# Altium integrated library National Semiconductor Audio.IntLib: 683 symbols (part 3 of 18)
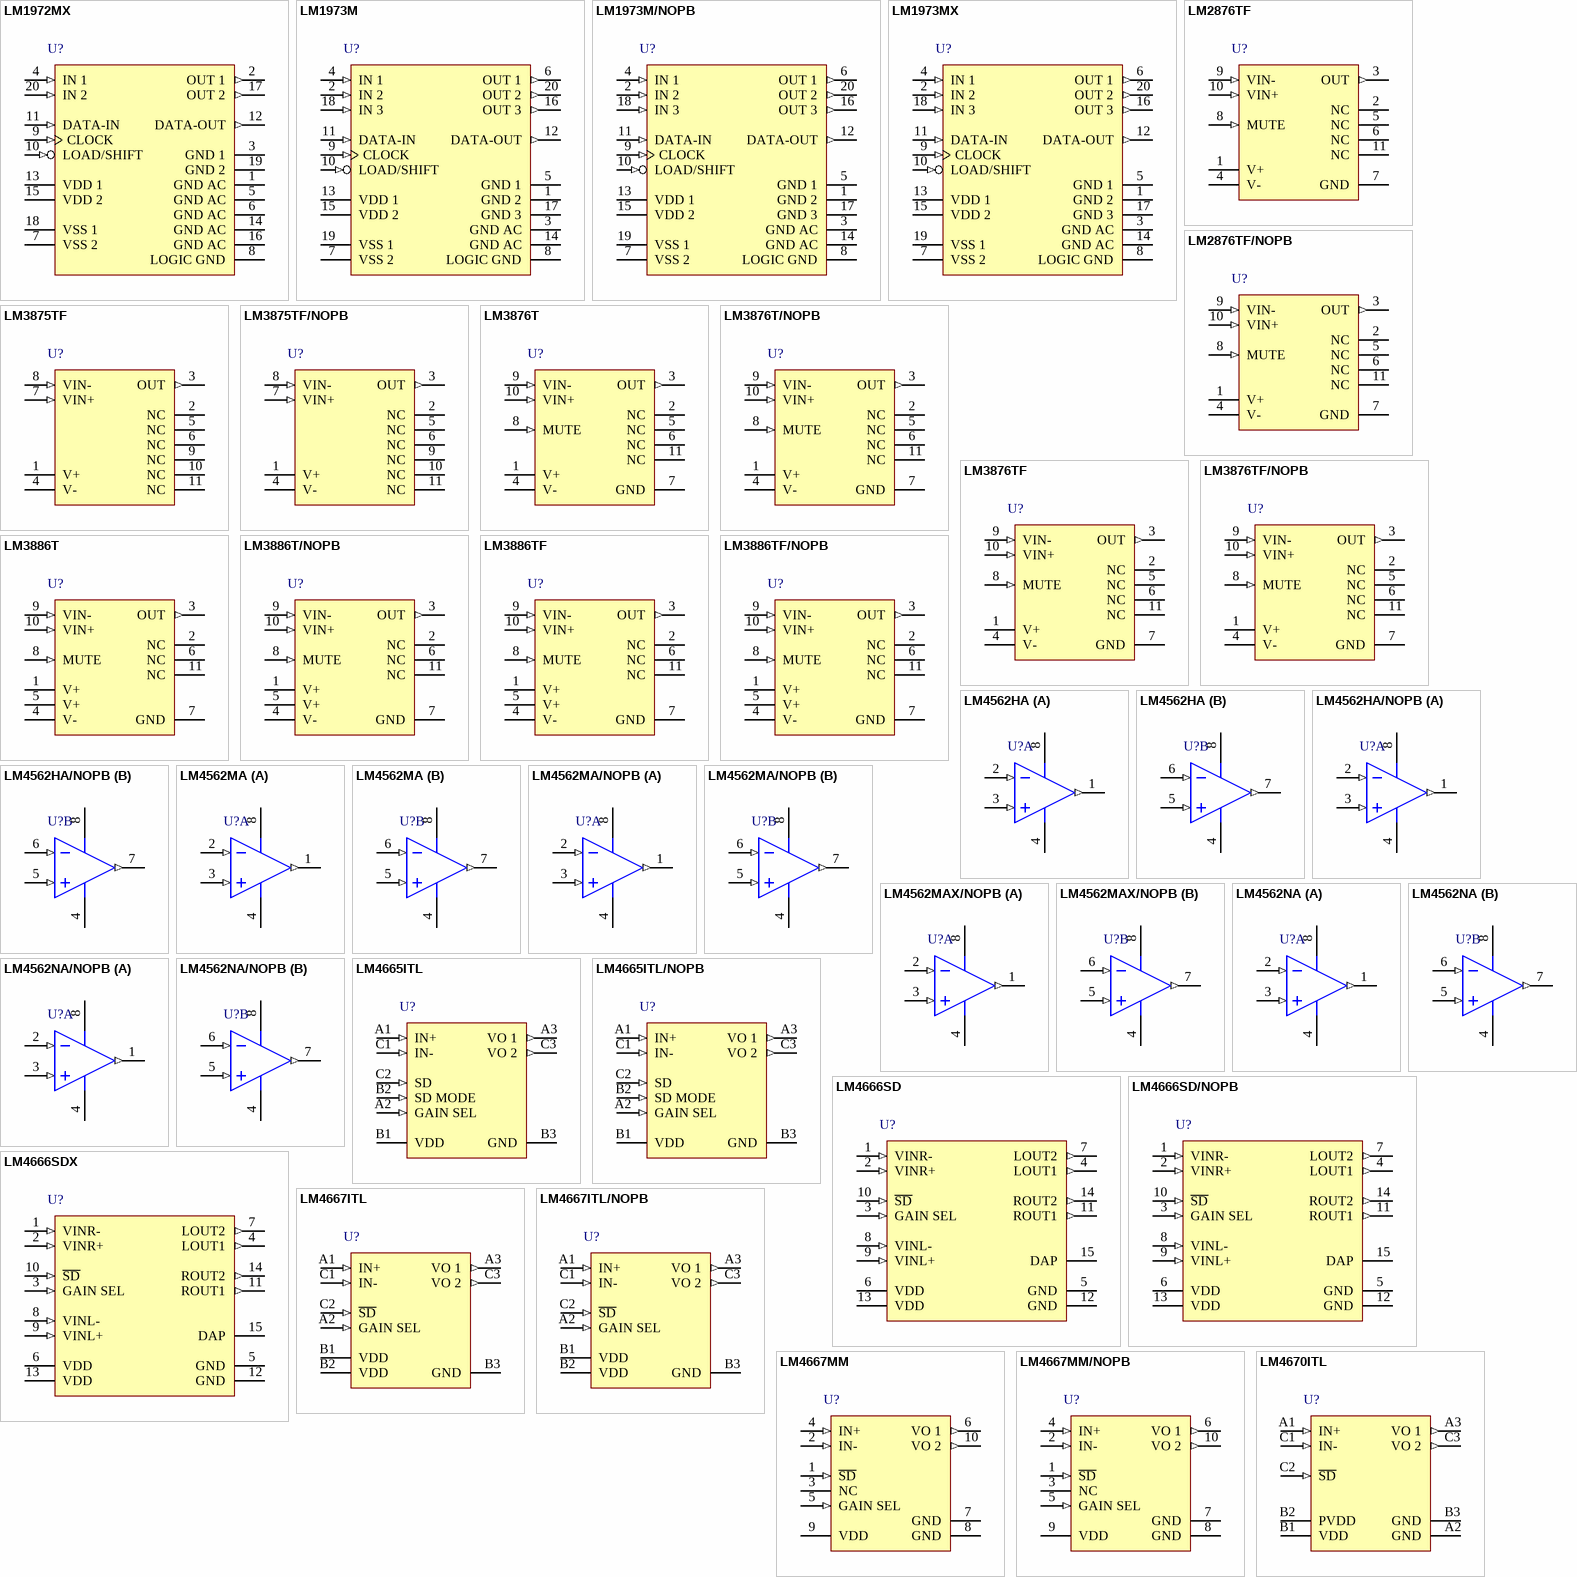
[diagram p29: symbols LM1972MX to LM4670ITL]

## LM4667ITL/NOPB
designator U?
Filterless High Efficiency 1.3W Switching Audio Amplifier, 9-pin Micro SMD, Pb-Free; PartNumber: LM4667ITL/NOPB; Manufacturer: National Semiconductor; PackageTopMarking: XVG*I B4; PowerWise: N; CompType: Audio IC; High-Reliability: Y; DatasheetVersion: Sep-2004; PackageVersion: revC, Jan-2004; PackageReference: TLA09AAA; PackageDescription: Thin Micro SMD, 9 Bump (Large), 0.5mm Pitch; RoHS: Y; PinCount: 9; Code_JEDEC: MO-211-DD; ComponentLink1Description: Manufacturer URL; ComponentLink1URL: http://www.national.com/; ComponentLink2Description: LM4667 Datasheet; ComponentLink2URL: http://www.national.com/ds/LM/LM4667.pdf; ComponentLink3Description: LM4667 Web Page; ComponentLink3URL: http://www.national.com/pf/LM/LM4667.html; ComponentLink4Description: TLA09AAA Package Page; ComponentLink4URL: http://www.national.com/packaging/folders/tla09aaa.html
footprint TLA09AAA (Micro SMD, 9-Leads, Body 1.52x1.52mm, Pitch 0.5mm, NSC Recommended)
pins: A1 IN+ (in), A2 GAIN SEL (in), A3 VO 1 (out), B1 VDD (power), B2 VDD (power), B3 GND (power), C1 IN- (in), C2 ~{SD} (in), C3 VO 2 (out)

## LM4667MM
designator U?
Filterless High Efficiency 1.3W Switching Audio Amplifier, 10-pin MSOP; PartNumber: LM4667MM; Manufacturer: National Semiconductor; PackageTopMarking: ZXTT*GA6; PowerWise: N; CompType: Audio IC; High-Reliability: Y; DatasheetVersion: Sep-2004; PackageVersion: revB, Jul-2003; PackageReference: MUB10A; PackageDescription: Mini-SO, Molded, .118 x .118 x .034in Body, 10 Lead, .0197in Pitch; RoHS: N; PinCount: 10; Code_JEDEC: MO-187-BA; ComponentLink1Description: Manufacturer URL; ComponentLink1URL: http://www.national.com/; ComponentLink2Description: LM4667 Datasheet; ComponentLink2URL: http://www.national.com/ds/LM/LM4667.pdf; ComponentLink3Description: LM4667 Web Page; ComponentLink3URL: http://www.national.com/pf/LM/LM4667.html; ComponentLink4Description: MUB10A Package Page; ComponentLink4URL: http://www.national.com/packaging/folders/mub10a.html
footprint MUB10A_N (TSSOP, 10-Leads, Body 3x3mm, Pitch 0.5mm, IPC Medium Density)
footprint MUB10A_L (TSSOP, 10-Leads, Body 3x3mm, Pitch 0.5mm, IPC High Density)
footprint MUB10A_M (TSSOP, 10-Leads, Body 3x3mm, Pitch 0.5mm, IPC Low Density)
pins: 1 ~{SD} (in), 2 IN- (in), 3 NC, 4 IN+ (in), 5 GAIN SEL (in), 6 VO 1 (out), 7 GND (power), 8 GND (power), 9 VDD (power), 10 VO 2 (out)

## LM4667MM/NOPB
designator U?
Filterless High Efficiency 1.3W Switching Audio Amplifier, 10-pin Mini SOIC, Pb-Free; PartNumber: LM4667MM/NOPB; Manufacturer: National Semiconductor; PackageTopMarking: ZXTT*GA6; PowerWise: N; CompType: Audio IC; High-Reliability: Y; DatasheetVersion: Sep-2004; PackageVersion: revB, Jul-2003; PackageReference: MUB10A; PackageDescription: Mini-SO, Molded, .118 x .118 x .034in Body, 10 Lead, .0197in Pitch; RoHS: Y; PinCount: 10; Code_JEDEC: MO-187-BA; ComponentLink1Description: Manufacturer URL; ComponentLink1URL: http://www.national.com/; ComponentLink2Description: LM4667 Datasheet; ComponentLink2URL: http://www.national.com/ds/LM/LM4667.pdf; ComponentLink3Description: LM4667 Web Page; ComponentLink3URL: http://www.national.com/pf/LM/LM4667.html; ComponentLink4Description: MUB10A Package Page; ComponentLink4URL: http://www.national.com/packaging/folders/mub10a.html
footprint MUB10A_N (TSSOP, 10-Leads, Body 3x3mm, Pitch 0.5mm, IPC Medium Density)
footprint MUB10A_L (TSSOP, 10-Leads, Body 3x3mm, Pitch 0.5mm, IPC High Density)
footprint MUB10A_M (TSSOP, 10-Leads, Body 3x3mm, Pitch 0.5mm, IPC Low Density)
pins: 1 ~{SD} (in), 2 IN- (in), 3 NC, 4 IN+ (in), 5 GAIN SEL (in), 6 VO 1 (out), 7 GND (power), 8 GND (power), 9 VDD (power), 10 VO 2 (out)

## LM4670ITL
designator U?
Filterless High Efficiency 3W Switching Audio Amplifier, 9-pin Micro SMD; PartNumber: LM4670ITL; Manufacturer: National Semiconductor; PackageTopMarking: XVG*I E6; PowerWise: N; CompType: Audio IC; High-Reliability: Y; DatasheetVersion: Jul-2006; PackageVersion: revC, Jan-2004; PackageReference: TLA09ZZA; PackageDescription: Thin Micro SMD, 9 Bump (Large), 0.5mm Pitch; RoHS: Y; PinCount: 9; Code_JEDEC: MO-211-DD; ComponentLink1Description: Manufacturer URL; ComponentLink1URL: http://www.national.com/; ComponentLink2Description: LM4670 Datasheet; ComponentLink2URL: http://www.national.com/ds/LM/LM4670.pdf; ComponentLink3Description: LM4670 Web Page; ComponentLink3URL: http://www.national.com/pf/LM/LM4670.html; ComponentLink4Description: TLA09ZZA Package Page; ComponentLink4URL: http://www.national.com/packaging/folders/tla09zza.html
footprint TLA09ZZA (Micro SMD, 9-Leads, Body 1.47x1.47mm, Pitch 0.5mm, NSC Recommended)
pins: A1 IN+ (in), A2 GND (power), A3 VO 1 (out), B1 VDD (power), B2 PVDD (power), B3 GND (power), C1 IN- (in), C2 ~{SD} (in), C3 VO 2 (out)

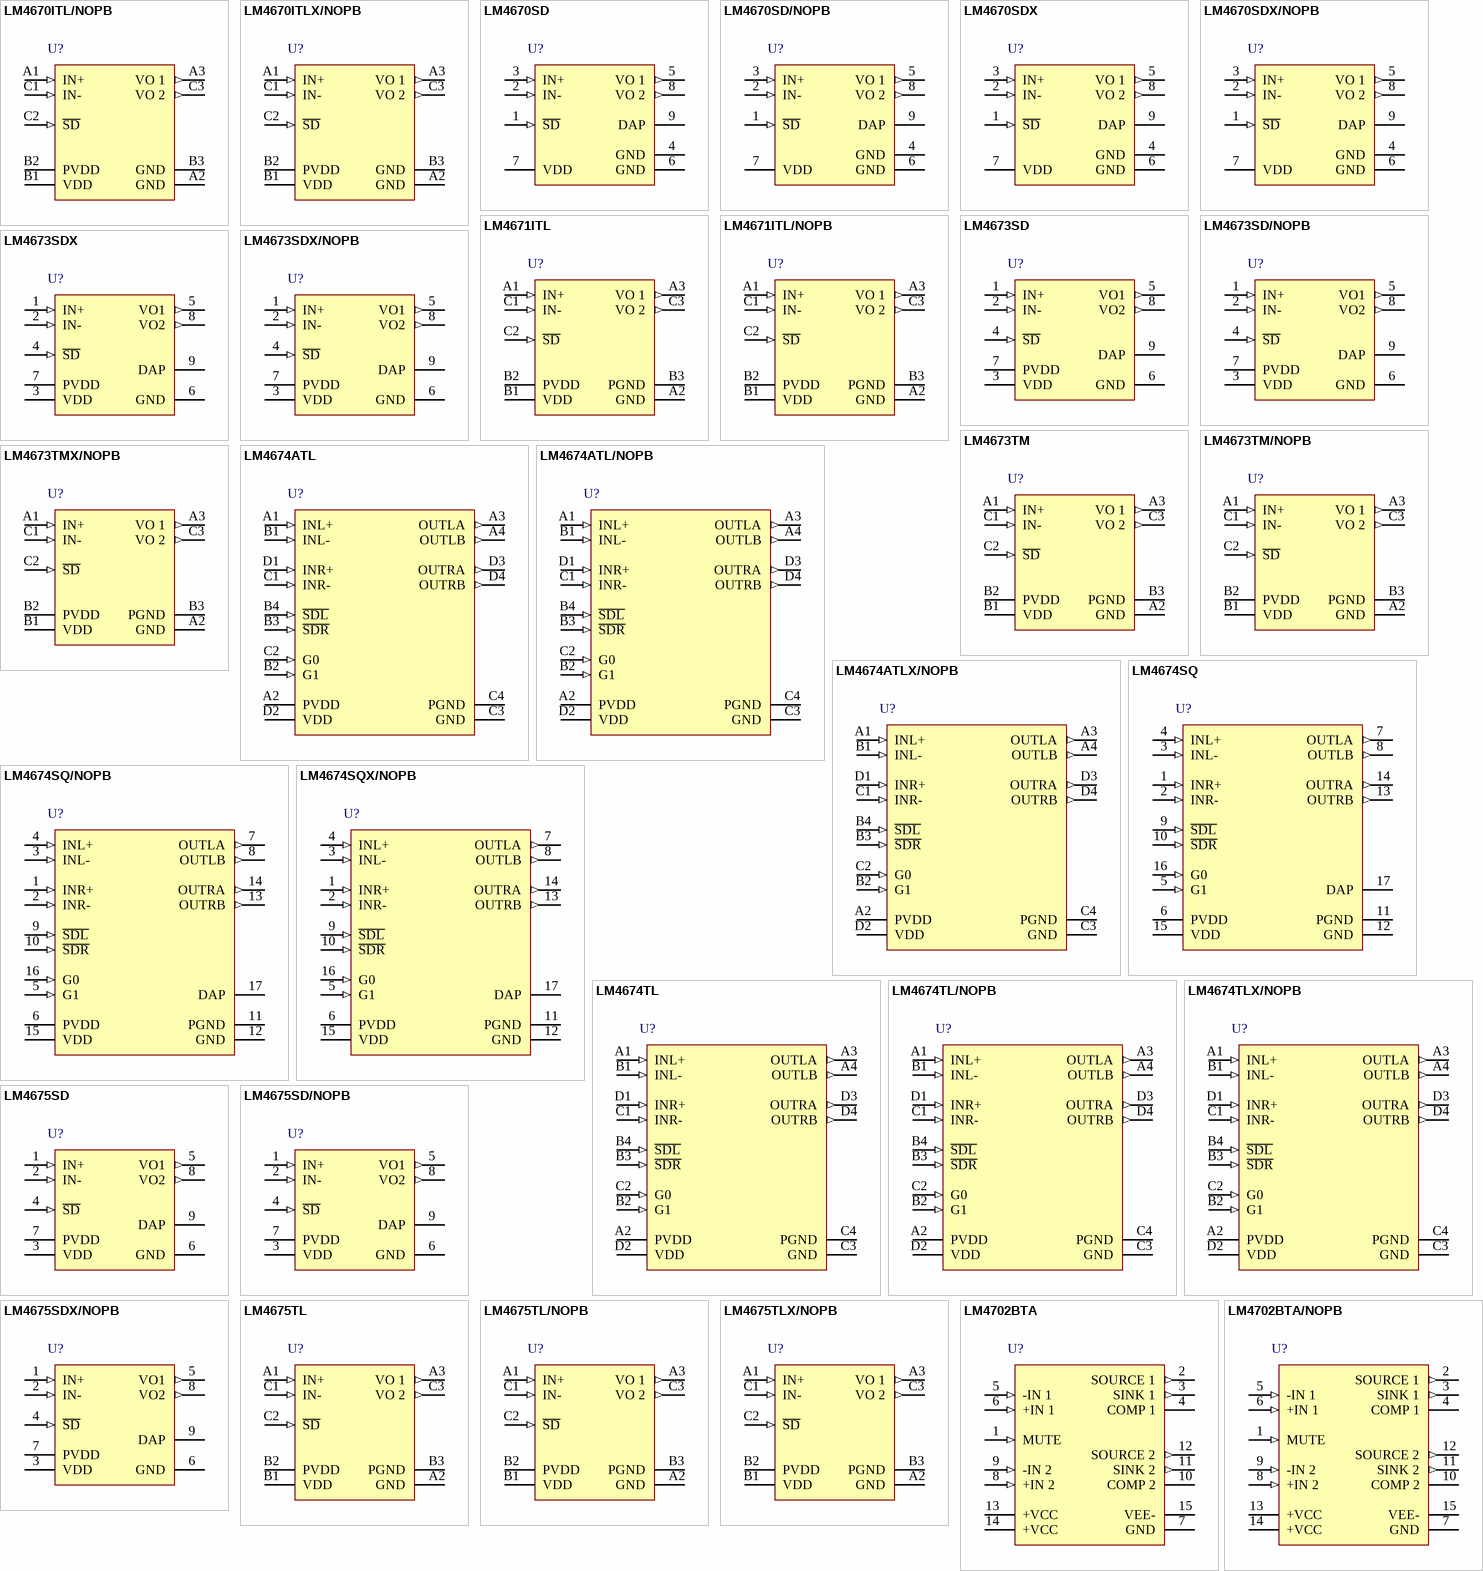
[diagram p3: symbols LM4670ITL/NOPB to LM4702BTA/NOPB]

## LM4670ITL/NOPB
designator U?
Filterless High Efficiency 3W Switching Audio Amplifier, 9-pin Micro SMD, Pb-Free; PartNumber: LM4670ITL/NOPB; Manufacturer: National Semiconductor; PackageTopMarking: XVG*I E6; PowerWise: N; CompType: Audio IC; High-Reliability: Y; DatasheetVersion: Jul-2006; PackageVersion: revC, Jan-2004; PackageReference: TLA09ZZA; PackageDescription: Thin Micro SMD, 9 Bump (Large), 0.5mm Pitch; RoHS: Y; PinCount: 9; Code_JEDEC: MO-211-DD; ComponentLink1Description: Manufacturer URL; ComponentLink1URL: http://www.national.com/; ComponentLink2Description: LM4670 Datasheet; ComponentLink2URL: http://www.national.com/ds/LM/LM4670.pdf; ComponentLink3Description: LM4670 Web Page; ComponentLink3URL: http://www.national.com/pf/LM/LM4670.html; ComponentLink4Description: TLA09ZZA Package Page; ComponentLink4URL: http://www.national.com/packaging/folders/tla09zza.html
footprint TLA09ZZA (Micro SMD, 9-Leads, Body 1.47x1.47mm, Pitch 0.5mm, NSC Recommended)
pins: A1 IN+ (in), A2 GND (power), A3 VO 1 (out), B1 VDD (power), B2 PVDD (power), B3 GND (power), C1 IN- (in), C2 ~{SD} (in), C3 VO 2 (out)

## LM4670ITLX/NOPB
designator U?
Filterless High Efficiency 3W Switching Audio Amplifier, 9-pin Micro SMD, Pb-Free; PartNumber: LM4670ITLX/NOPB; Manufacturer: National Semiconductor; PackageTopMarking: XVG*I E6; PowerWise: N; CompType: Audio IC; High-Reliability: Y; DatasheetVersion: Jul-2006; PackageVersion: revC, Jan-2004; PackageReference: TLA09ZZA; PackageDescription: Thin Micro SMD, 9 Bump (Large), 0.5mm Pitch; RoHS: Y; PinCount: 9; Code_JEDEC: MO-211-DD; ComponentLink1Description: Manufacturer URL; ComponentLink1URL: http://www.national.com/; ComponentLink2Description: LM4670 Datasheet; ComponentLink2URL: http://www.national.com/ds/LM/LM4670.pdf; ComponentLink3Description: LM4670 Web Page; ComponentLink3URL: http://www.national.com/pf/LM/LM4670.html; ComponentLink4Description: TLA09ZZA Package Page; ComponentLink4URL: http://www.national.com/packaging/folders/tla09zza.html
footprint TLA09ZZA (Micro SMD, 9-Leads, Body 1.47x1.47mm, Pitch 0.5mm, NSC Recommended)
pins: A1 IN+ (in), A2 GND (power), A3 VO 1 (out), B1 VDD (power), B2 PVDD (power), B3 GND (power), C1 IN- (in), C2 ~{SD} (in), C3 VO 2 (out)

## LM4670SD
designator U?
Filterless High Efficiency 3W Switching Audio Amplifier, 9-pin LLP; PartNumber: LM4670SD; Manufacturer: National Semiconductor; PackageTopMarking: ZXYTT*L4670; PowerWise: N; CompType: Audio IC; High-Reliability: Y; DatasheetVersion: Jul-2006; PackageVersion: revA, Aug-2003; PackageReference: SDA08A; PackageDescription: LLP, Plastic, Dual, 3 x 3 x 0.8mm Body, 8 Lead, 0.5mm Pitch, No Pullback; RoHS: N; PinCount: 8; ComponentLink1Description: Manufacturer URL; ComponentLink1URL: http://www.national.com/; ComponentLink2Description: LM4670 Datasheet; ComponentLink2URL: http://www.national.com/ds/LM/LM4670.pdf; ComponentLink3Description: LM4670 Web Page; ComponentLink3URL: http://www.national.com/pf/LM/LM4670.html; ComponentLink4Description: SDA08A Package Page; ComponentLink4URL: http://www.national.com/packaging/folders/sda08a.html
footprint SDA08A (SON, 8-Leads, Body 3x3mm, Pitch 0.5mm, NSC Recommended)
pins: 1 ~{SD} (in), 2 IN- (in), 3 IN+ (in), 4 GND (power), 5 VO 1 (out), 6 GND (power), 7 VDD (power), 8 VO 2 (out), 9 DAP (power)

## LM4670SD/NOPB
designator U?
Filterless High Efficiency 3W Switching Audio Amplifier, 8-pin LLP, Pb-Free; PartNumber: LM4670SD/NOPB; Manufacturer: National Semiconductor; PackageTopMarking: ZXYTT*L4670; PowerWise: N; CompType: Audio IC; High-Reliability: Y; DatasheetVersion: Jul-2006; PackageVersion: revA, Aug-2003; PackageReference: SDA08A; PackageDescription: LLP, Plastic, Dual, 3 x 3 x 0.8mm Body, 8 Lead, 0.5mm Pitch, No Pullback; RoHS: Y; PinCount: 8; ComponentLink1Description: Manufacturer URL; ComponentLink1URL: http://www.national.com/; ComponentLink2Description: LM4670 Datasheet; ComponentLink2URL: http://www.national.com/ds/LM/LM4670.pdf; ComponentLink3Description: LM4670 Web Page; ComponentLink3URL: http://www.national.com/pf/LM/LM4670.html; ComponentLink4Description: SDA08A Package Page; ComponentLink4URL: http://www.national.com/packaging/folders/sda08a.html
footprint SDA08A (SON, 8-Leads, Body 3x3mm, Pitch 0.5mm, NSC Recommended)
pins: 1 ~{SD} (in), 2 IN- (in), 3 IN+ (in), 4 GND (power), 5 VO 1 (out), 6 GND (power), 7 VDD (power), 8 VO 2 (out), 9 DAP (power)

## LM4670SDX
designator U?
Filterless High Efficiency 3W Switching Audio Amplifier, 8-pin LLP; PartNumber: LM4670SDX; Manufacturer: National Semiconductor; PackageTopMarking: ZXYTT*L4670; PowerWise: N; CompType: Audio IC; High-Reliability: Y; DatasheetVersion: Jul-2006; PackageVersion: revA, Aug-2003; PackageReference: SDA08A; PackageDescription: LLP, Plastic, Dual, 3 x 3 x 0.8mm Body, 8 Lead, 0.5mm Pitch, No Pullback; RoHS: N; PinCount: 8; ComponentLink1Description: Manufacturer URL; ComponentLink1URL: http://www.national.com/; ComponentLink2Description: LM4670 Datasheet; ComponentLink2URL: http://www.national.com/ds/LM/LM4670.pdf; ComponentLink3Description: LM4670 Web Page; ComponentLink3URL: http://www.national.com/pf/LM/LM4670.html; ComponentLink4Description: SDA08A Package Page; ComponentLink4URL: http://www.national.com/packaging/folders/sda08a.html
footprint SDA08A (SON, 8-Leads, Body 3x3mm, Pitch 0.5mm, NSC Recommended)
pins: 1 ~{SD} (in), 2 IN- (in), 3 IN+ (in), 4 GND (power), 5 VO 1 (out), 6 GND (power), 7 VDD (power), 8 VO 2 (out), 9 DAP (power)

## LM4670SDX/NOPB
designator U?
Filterless High Efficiency 3W Switching Audio Amplifier, 8-pin LLP, Pb-Free; PartNumber: LM4670SDX/NOPB; Manufacturer: National Semiconductor; PackageTopMarking: ZXYTT*L4670; PowerWise: N; CompType: Audio IC; High-Reliability: Y; DatasheetVersion: Jul-2006; PackageVersion: revA, Aug-2003; PackageReference: SDA08A; PackageDescription: LLP, Plastic, Dual, 3 x 3 x 0.8mm Body, 8 Lead, 0.5mm Pitch, No Pullback; RoHS: Y; PinCount: 8; ComponentLink1Description: Manufacturer URL; ComponentLink1URL: http://www.national.com/; ComponentLink2Description: LM4670 Datasheet; ComponentLink2URL: http://www.national.com/ds/LM/LM4670.pdf; ComponentLink3Description: LM4670 Web Page; ComponentLink3URL: http://www.national.com/pf/LM/LM4670.html; ComponentLink4Description: SDA08A Package Page; ComponentLink4URL: http://www.national.com/packaging/folders/sda08a.html
footprint SDA08A (SON, 8-Leads, Body 3x3mm, Pitch 0.5mm, NSC Recommended)
pins: 1 ~{SD} (in), 2 IN- (in), 3 IN+ (in), 4 GND (power), 5 VO 1 (out), 6 GND (power), 7 VDD (power), 8 VO 2 (out), 9 DAP (power)

## LM4671ITL
designator U?
Filterless High Efficiency 2.5W Switching Audio Amplifier, 9-pin Micro SMD; PartNumber: LM4671ITL; Manufacturer: National Semiconductor; PackageTopMarking: XVG*I E7; PowerWise: N; CompType: Audio IC; High-Reliability: Y; DatasheetVersion: Mar-2008; PackageVersion: revC, Jan-2004; PackageReference: TLA09AAA; PackageDescription: Thin Micro SMD, 9 Bump (Large), 0.5mm Pitch; RoHS: Y; PinCount: 9; Code_JEDEC: MO-211-DD; ComponentLink1Description: Manufacturer URL; ComponentLink1URL: http://www.national.com/; ComponentLink2Description: LM4671 Datasheet; ComponentLink2URL: http://www.national.com/ds/LM/LM4671.pdf; ComponentLink3Description: LM4671 Web Page; ComponentLink3URL: http://www.national.com/pf/LM/LM4671.html; ComponentLink4Description: TLA09AAA Package Page; ComponentLink4URL: http://www.national.com/packaging/folders/tla09aaa.html
footprint TLA09AAA (Micro SMD, 9-Leads, Body 1.52x1.52mm, Pitch 0.5mm, NSC Recommended)
pins: A1 IN+ (in), A2 GND (power), A3 VO 1 (out), B1 VDD (power), B2 PVDD (power), B3 PGND (power), C1 IN- (in), C2 ~{SD} (in), C3 VO 2 (out)

## LM4671ITL/NOPB
designator U?
Filterless High Efficiency 2.5W Switching Audio Amplifier, 9-pin Micro SMD, Pb-Free; PartNumber: LM4671ITL/NOPB; Manufacturer: National Semiconductor; PackageTopMarking: XVG*I E7; PowerWise: N; CompType: Audio IC; High-Reliability: Y; DatasheetVersion: Mar-2008; PackageVersion: revC, Jan-2004; PackageReference: TLA09AAA; PackageDescription: Thin Micro SMD, 9 Bump (Large), 0.5mm Pitch; RoHS: Y; PinCount: 9; Code_JEDEC: MO-211-DD; ComponentLink1Description: Manufacturer URL; ComponentLink1URL: http://www.national.com/; ComponentLink2Description: LM4671 Datasheet; ComponentLink2URL: http://www.national.com/ds/LM/LM4671.pdf; ComponentLink3Description: LM4671 Web Page; ComponentLink3URL: http://www.national.com/pf/LM/LM4671.html; ComponentLink4Description: TLA09AAA Package Page; ComponentLink4URL: http://www.national.com/packaging/folders/tla09aaa.html
footprint TLA09AAA (Micro SMD, 9-Leads, Body 1.52x1.52mm, Pitch 0.5mm, NSC Recommended)
pins: A1 IN+ (in), A2 GND (power), A3 VO 1 (out), B1 VDD (power), B2 PVDD (power), B3 PGND (power), C1 IN- (in), C2 ~{SD} (in), C3 VO 2 (out)

## LM4673SD
designator U?
Filterless, 2.65W, Mono, Class D Audio Power Amplifier, 9-pin LLP; PartNumber: LM4673SD; Manufacturer: National Semiconductor; PackageTopMarking: ZXYTT*L4673; PowerWise: Y; CompType: Audio IC; DatasheetVersion: Nov-2007; PackageVersion: revA, Aug-2003; PackageReference: SDA08A; PackageDescription: LLP, Plastic, Dual, 3 x 3 x 0.8mm Body, 8 Lead, 0.5mm Pitch, No Pullback; RoHS: N; PinCount: 8; High-Reliability: Y; ComponentLink1Description: Manufacturer URL; ComponentLink1URL: http://www.national.com/; ComponentLink2Description: LM4673 Datasheet; ComponentLink2URL: http://www.national.com/ds/LM/LM4673.pdf; ComponentLink3Description: LM4673 Web Page; ComponentLink3URL: http://www.national.com/pf/LM/LM4673.html; ComponentLink4Description: SDA08A Package Page; ComponentLink4URL: http://www.national.com/packaging/folders/sda08a.html
footprint SDA08A (SON, 8-Leads, Body 3x3mm, Pitch 0.5mm, NSC Recommended)
pins: 1 IN+ (in), 2 IN- (in), 3 VDD (power), 4 ~{SD} (in), 5 VO1 (out), 6 GND (power), 7 PVDD (power), 8 VO2 (out), 9 DAP (power)

## LM4673SD/NOPB
designator U?
Filterless, 2.65W, Mono, Class D Audio Power Amplifier, 8-pin LLP, Pb-Free; PartNumber: LM4673SD/NOPB; Manufacturer: National Semiconductor; PackageTopMarking: ZXYTT*L4673; PowerWise: Y; CompType: Audio IC; DatasheetVersion: Nov-2007; PackageVersion: revA, Aug-2003; PackageReference: SDA08A; PackageDescription: LLP, Plastic, Dual, 3 x 3 x 0.8mm Body, 8 Lead, 0.5mm Pitch, No Pullback; RoHS: Y; PinCount: 8; High-Reliability: Y; ComponentLink1Description: Manufacturer URL; ComponentLink1URL: http://www.national.com/; ComponentLink2Description: LM4673 Datasheet; ComponentLink2URL: http://www.national.com/ds/LM/LM4673.pdf; ComponentLink3Description: LM4673 Web Page; ComponentLink3URL: http://www.national.com/pf/LM/LM4673.html; ComponentLink4Description: SDA08A Package Page; ComponentLink4URL: http://www.national.com/packaging/folders/sda08a.html
footprint SDA08A (SON, 8-Leads, Body 3x3mm, Pitch 0.5mm, NSC Recommended)
pins: 1 IN+ (in), 2 IN- (in), 3 VDD (power), 4 ~{SD} (in), 5 VO1 (out), 6 GND (power), 7 PVDD (power), 8 VO2 (out), 9 DAP (power)

## LM4673SDX
designator U?
Filterless, 2.65W, Mono, Class D Audio Power Amplifier, 8-pin LLP; PartNumber: LM4673SDX; Manufacturer: National Semiconductor; PackageTopMarking: ZXYTT*L4673; PowerWise: Y; CompType: Audio IC; DatasheetVersion: Nov-2007; PackageVersion: revA, Aug-2003; PackageReference: SDA08A; PackageDescription: LLP, Plastic, Dual, 3 x 3 x 0.8mm Body, 8 Lead, 0.5mm Pitch, No Pullback; RoHS: N; PinCount: 8; High-Reliability: Y; ComponentLink1Description: Manufacturer URL; ComponentLink1URL: http://www.national.com/; ComponentLink2Description: LM4673 Datasheet; ComponentLink2URL: http://www.national.com/ds/LM/LM4673.pdf; ComponentLink3Description: LM4673 Web Page; ComponentLink3URL: http://www.national.com/pf/LM/LM4673.html; ComponentLink4Description: SDA08A Package Page; ComponentLink4URL: http://www.national.com/packaging/folders/sda08a.html
footprint SDA08A (SON, 8-Leads, Body 3x3mm, Pitch 0.5mm, NSC Recommended)
pins: 1 IN+ (in), 2 IN- (in), 3 VDD (power), 4 ~{SD} (in), 5 VO1 (out), 6 GND (power), 7 PVDD (power), 8 VO2 (out), 9 DAP (power)

## LM4673SDX/NOPB
designator U?
Filterless, 2.65W, Mono, Class D Audio Power Amplifier, 8-pin LLP, Pb-Free; PartNumber: LM4673SDX/NOPB; Manufacturer: National Semiconductor; PackageTopMarking: ZXYTT*L4673; PowerWise: Y; CompType: Audio IC; DatasheetVersion: Nov-2007; PackageVersion: revA, Aug-2003; PackageReference: SDA08A; PackageDescription: LLP, Plastic, Dual, 3 x 3 x 0.8mm Body, 8 Lead, 0.5mm Pitch, No Pullback; RoHS: Y; PinCount: 8; High-Reliability: Y; ComponentLink1Description: Manufacturer URL; ComponentLink1URL: http://www.national.com/; ComponentLink2Description: LM4673 Datasheet; ComponentLink2URL: http://www.national.com/ds/LM/LM4673.pdf; ComponentLink3Description: LM4673 Web Page; ComponentLink3URL: http://www.national.com/pf/LM/LM4673.html; ComponentLink4Description: SDA08A Package Page; ComponentLink4URL: http://www.national.com/packaging/folders/sda08a.html
footprint SDA08A (SON, 8-Leads, Body 3x3mm, Pitch 0.5mm, NSC Recommended)
pins: 1 IN+ (in), 2 IN- (in), 3 VDD (power), 4 ~{SD} (in), 5 VO1 (out), 6 GND (power), 7 PVDD (power), 8 VO2 (out), 9 DAP (power)

## LM4673TM
designator U?
Filterless, 2.65W, Mono, Class D Audio Power Amplifier, 9-pin Micro SMD; PartNumber: LM4673TM; Manufacturer: National Semiconductor; PackageTopMarking: XVG*I G4; PowerWise: Y; CompType: Audio IC; DatasheetVersion: Nov-2007; PackageVersion: revA, May-2005; PackageReference: TMD09GGA; PackageDescription: Thin Micro SMD, 9 Bump, 0.4mm Pitch; RoHS: Y; PinCount: 9; High-Reliability: Y; ComponentLink1Description: Manufacturer URL; ComponentLink1URL: http://www.national.com/; ComponentLink2Description: LM4673 Datasheet; ComponentLink2URL: http://www.national.com/ds/LM/LM4673.pdf; ComponentLink3Description: LM4673 Web Page; ComponentLink3URL: http://www.national.com/pf/LM/LM4673.html; ComponentLink4Description: TMD09GGA Package Page; ComponentLink4URL: http://www.national.com/packaging/folders/tmd09gga.html
footprint TMD09GGA (Micro SMD, 9-Leads, Body 1.37x1.37mm, Pitch 0.4mm, NSC Recommended)
pins: A1 IN+ (in), A2 GND (power), A3 VO 1 (out), B1 VDD (power), B2 PVDD (power), B3 PGND (power), C1 IN- (in), C2 ~{SD} (in), C3 VO 2 (out)

## LM4673TM/NOPB
designator U?
Filterless, 2.65W, Mono, Class D Audio Power Amplifier, 9-pin Micro SMD, Pb-Free; PartNumber: LM4673TM/NOPB; Manufacturer: National Semiconductor; PackageTopMarking: XVG*I G4; PowerWise: Y; CompType: Audio IC; DatasheetVersion: Nov-2007; PackageVersion: revA, May-2005; PackageReference: TMD09GGA; PackageDescription: Thin Micro SMD, 9 Bump, 0.4mm Pitch; RoHS: Y; PinCount: 9; High-Reliability: Y; ComponentLink1Description: Manufacturer URL; ComponentLink1URL: http://www.national.com/; ComponentLink2Description: LM4673 Datasheet; ComponentLink2URL: http://www.national.com/ds/LM/LM4673.pdf; ComponentLink3Description: LM4673 Web Page; ComponentLink3URL: http://www.national.com/pf/LM/LM4673.html; ComponentLink4Description: TMD09GGA Package Page; ComponentLink4URL: http://www.national.com/packaging/folders/tmd09gga.html
footprint TMD09GGA (Micro SMD, 9-Leads, Body 1.37x1.37mm, Pitch 0.4mm, NSC Recommended)
pins: A1 IN+ (in), A2 GND (power), A3 VO 1 (out), B1 VDD (power), B2 PVDD (power), B3 PGND (power), C1 IN- (in), C2 ~{SD} (in), C3 VO 2 (out)

## LM4673TMX/NOPB
designator U?
Filterless, 2.65W, Mono, Class D Audio Power Amplifier, 9-pin Micro SMD, Pb-Free; PartNumber: LM4673TMX/NOPB; Manufacturer: National Semiconductor; PackageTopMarking: XVG*I G4; PowerWise: Y; CompType: Audio IC; DatasheetVersion: Nov-2007; PackageVersion: revA, May-2005; PackageReference: TMD09GGA; PackageDescription: Thin Micro SMD, 9 Bump, 0.4mm Pitch; RoHS: Y; PinCount: 9; High-Reliability: Y; ComponentLink1Description: Manufacturer URL; ComponentLink1URL: http://www.national.com/; ComponentLink2Description: LM4673 Datasheet; ComponentLink2URL: http://www.national.com/ds/LM/LM4673.pdf; ComponentLink3Description: LM4673 Web Page; ComponentLink3URL: http://www.national.com/pf/LM/LM4673.html; ComponentLink4Description: TMD09GGA Package Page; ComponentLink4URL: http://www.national.com/packaging/folders/tmd09gga.html
footprint TMD09GGA (Micro SMD, 9-Leads, Body 1.37x1.37mm, Pitch 0.4mm, NSC Recommended)
pins: A1 IN+ (in), A2 GND (power), A3 VO 1 (out), B1 VDD (power), B2 PVDD (power), B3 PGND (power), C1 IN- (in), C2 ~{SD} (in), C3 VO 2 (out)

## LM4674ATL
designator U?
Filterless 2.5 Stereo Class D Audio Power Amplifier, 16-pin Micro SMD; PartNumber: LM4674ATL; Manufacturer: National Semiconductor; PackageTopMarking: XYTT*I GI2; PowerWise: Y; CompType: Audio IC; DatasheetVersion: Sep-2006; PackageVersion: revC, Jan-2004; PackageReference: TLA1611A; PackageDescription: Thin Micro SMD, 16 Bump (Large), 0.5mm Pitch; RoHS: Y; PinCount: 16; High-Reliability: Y; Code_JEDEC: MO-211-DF; ComponentLink1Description: Manufacturer URL; ComponentLink1URL: http://www.national.com/; ComponentLink2Description: LM4674A Datasheet; ComponentLink2URL: http://www.national.com/ds/LM/LM4674A.pdf; ComponentLink3Description: LM4674A Web Page; ComponentLink3URL: http://www.national.com/pf/LM/LM4674A.html; ComponentLink4Description: TLA1611A Package Page; ComponentLink4URL: http://www.national.com/packaging/folders/tla1611a.html
footprint TLA1611A (Micro SMD, 16-Leads, Body 1.97x1.97mm, Pitch 0.5mm, NSC Recommended)
pins: A1 INL+ (in), A2 PVDD (power), A3 OUTLA (out), A4 OUTLB (out), B1 INL- (in), B2 G1 (in), B3 ~{SDR} (in), B4 ~{SDL} (in), C1 INR- (in), C2 G0 (in), C3 GND (power), C4 PGND (power), D1 INR+ (in), D2 VDD (power), D3 OUTRA (out), D4 OUTRB (out)

## LM4674ATL/NOPB
designator U?
Filterless 2.5 Stereo Class D Audio Power Amplifier, 16-pin Micro SMD, Pb-Free; PartNumber: LM4674ATL/NOPB; Manufacturer: National Semiconductor; PackageTopMarking: XYTT*I GI2; PowerWise: Y; CompType: Audio IC; DatasheetVersion: Sep-2006; PackageVersion: revC, Jan-2004; PackageReference: TLA1611A; PackageDescription: Thin Micro SMD, 16 Bump (Large), 0.5mm Pitch; RoHS: Y; PinCount: 16; High-Reliability: Y; Code_JEDEC: MO-211-DF; ComponentLink1Description: Manufacturer URL; ComponentLink1URL: http://www.national.com/; ComponentLink2Description: LM4674A Datasheet; ComponentLink2URL: http://www.national.com/ds/LM/LM4674A.pdf; ComponentLink3Description: LM4674A Web Page; ComponentLink3URL: http://www.national.com/pf/LM/LM4674A.html; ComponentLink4Description: TLA1611A Package Page; ComponentLink4URL: http://www.national.com/packaging/folders/tla1611a.html
footprint TLA1611A (Micro SMD, 16-Leads, Body 1.97x1.97mm, Pitch 0.5mm, NSC Recommended)
pins: A1 INL+ (in), A2 PVDD (power), A3 OUTLA (out), A4 OUTLB (out), B1 INL- (in), B2 G1 (in), B3 ~{SDR} (in), B4 ~{SDL} (in), C1 INR- (in), C2 G0 (in), C3 GND (power), C4 PGND (power), D1 INR+ (in), D2 VDD (power), D3 OUTRA (out), D4 OUTRB (out)

## LM4674ATLX/NOPB
designator U?
Filterless 2.5 Stereo Class D Audio Power Amplifier, 16-pin Micro SMD, Pb-Free; PartNumber: LM4674ATLX/NOPB; Manufacturer: National Semiconductor; PackageTopMarking: XYTT*I GI2; PowerWise: Y; CompType: Audio IC; DatasheetVersion: Sep-2006; PackageVersion: revC, Jan-2004; PackageReference: TLA1611A; PackageDescription: Thin Micro SMD, 16 Bump (Large), 0.5mm Pitch; RoHS: Y; PinCount: 16; High-Reliability: Y; Code_JEDEC: MO-211-DF; ComponentLink1Description: Manufacturer URL; ComponentLink1URL: http://www.national.com/; ComponentLink2Description: LM4674A Datasheet; ComponentLink2URL: http://www.national.com/ds/LM/LM4674A.pdf; ComponentLink3Description: LM4674A Web Page; ComponentLink3URL: http://www.national.com/pf/LM/LM4674A.html; ComponentLink4Description: TLA1611A Package Page; ComponentLink4URL: http://www.national.com/packaging/folders/tla1611a.html
footprint TLA1611A (Micro SMD, 16-Leads, Body 1.97x1.97mm, Pitch 0.5mm, NSC Recommended)
pins: A1 INL+ (in), A2 PVDD (power), A3 OUTLA (out), A4 OUTLB (out), B1 INL- (in), B2 G1 (in), B3 ~{SDR} (in), B4 ~{SDL} (in), C1 INR- (in), C2 G0 (in), C3 GND (power), C4 PGND (power), D1 INR+ (in), D2 VDD (power), D3 OUTRA (out), D4 OUTRB (out)

## LM4674SQ
designator U?
Filterless 2.5 Stereo Class D Audio Power Amplifier, 17-pin LLP; PartNumber: LM4674SQ; Manufacturer: National Semiconductor; PackageTopMarking: NS*UZXYTT*L4674SQ; PowerWise: N; CompType: Audio IC; High-Reliability: Y; DatasheetVersion: Jul-2008; PackageVersion: revA, Oct-2003; PackageReference: SQA16A; PackageDescription: LLP, Plastic, Quad, 4 x 4 x 0.8mm Body, 16 Lead, 0.5mm Pitch, No Pullback; RoHS: Y; PinCount: 16; ComponentLink1Description: Manufacturer URL; ComponentLink1URL: http://www.national.com/; ComponentLink2Description: LM4674 Datasheet; ComponentLink2URL: http://www.national.com/ds/LM/LM4674.pdf; ComponentLink3Description: LM4674 Web Page; ComponentLink3URL: http://www.national.com/pf/LM/LM4674.html; ComponentLink4Description: SQA16A Package Page; ComponentLink4URL: http://www.national.com/packaging/folders/sqa16a.html
footprint SQA16A (QFN, 16-Leads, Body 4x4mm, Pitch 0.5mm, Thermal Pad 2.7x2.7mm, NSC Recommended)
pins: 1 INR+ (in), 2 INR- (in), 3 INL- (in), 4 INL+ (in), 5 G1 (in), 6 PVDD (power), 7 OUTLA (out), 8 OUTLB (out), 9 ~{SDL} (in), 10 ~{SDR} (in), 11 PGND (power), 12 GND (power), 13 OUTRB (out), 14 OUTRA (out), 15 VDD (power), 16 G0 (in), 17 DAP (power)

## LM4674SQ/NOPB
designator U?
Filterless 2.5 Stereo Class D Audio Power Amplifier, 16-pin LLP, Pb-Free; PartNumber: LM4674SQ/NOPB; Manufacturer: National Semiconductor; PackageTopMarking: NS*UZXYTT*L4674SQ; PowerWise: Y; CompType: Audio IC; DatasheetVersion: Jul-2008; PackageVersion: revA, Oct-2003; PackageReference: SQA16A; PackageDescription: LLP, Plastic, Quad, 4 x 4 x 0.8mm Body, 16 Lead, 0.5mm Pitch, No Pullback; RoHS: Y; PinCount: 16; High-Reliability: Y; ComponentLink1Description: Manufacturer URL; ComponentLink1URL: http://www.national.com/; ComponentLink2Description: LM4674 Datasheet; ComponentLink2URL: http://www.national.com/ds/LM/LM4674.pdf; ComponentLink3Description: LM4674 Web Page; ComponentLink3URL: http://www.national.com/pf/LM/LM4674.html; ComponentLink4Description: SQA16A Package Page; ComponentLink4URL: http://www.national.com/packaging/folders/sqa16a.html
footprint SQA16A (QFN, 16-Leads, Body 4x4mm, Pitch 0.5mm, Thermal Pad 2.7x2.7mm, NSC Recommended)
pins: 1 INR+ (in), 2 INR- (in), 3 INL- (in), 4 INL+ (in), 5 G1 (in), 6 PVDD (power), 7 OUTLA (out), 8 OUTLB (out), 9 ~{SDL} (in), 10 ~{SDR} (in), 11 PGND (power), 12 GND (power), 13 OUTRB (out), 14 OUTRA (out), 15 VDD (power), 16 G0 (in), 17 DAP (power)

## LM4674SQX/NOPB
designator U?
Filterless 2.5 Stereo Class D Audio Power Amplifier, 16-pin LLP, Pb-Free; PartNumber: LM4674SQX/NOPB; Manufacturer: National Semiconductor; PackageTopMarking: NS*UZXYTT*L4674SQ; PowerWise: Y; CompType: Audio IC; DatasheetVersion: Jul-2008; PackageVersion: revA, Oct-2003; PackageReference: SQA16A; PackageDescription: LLP, Plastic, Quad, 4 x 4 x 0.8mm Body, 16 Lead, 0.5mm Pitch, No Pullback; RoHS: Y; PinCount: 16; High-Reliability: Y; ComponentLink1Description: Manufacturer URL; ComponentLink1URL: http://www.national.com/; ComponentLink2Description: LM4674 Datasheet; ComponentLink2URL: http://www.national.com/ds/LM/LM4674.pdf; ComponentLink3Description: LM4674 Web Page; ComponentLink3URL: http://www.national.com/pf/LM/LM4674.html; ComponentLink4Description: SQA16A Package Page; ComponentLink4URL: http://www.national.com/packaging/folders/sqa16a.html
footprint SQA16A (QFN, 16-Leads, Body 4x4mm, Pitch 0.5mm, Thermal Pad 2.7x2.7mm, NSC Recommended)
pins: 1 INR+ (in), 2 INR- (in), 3 INL- (in), 4 INL+ (in), 5 G1 (in), 6 PVDD (power), 7 OUTLA (out), 8 OUTLB (out), 9 ~{SDL} (in), 10 ~{SDR} (in), 11 PGND (power), 12 GND (power), 13 OUTRB (out), 14 OUTRA (out), 15 VDD (power), 16 G0 (in), 17 DAP (power)

## LM4674TL
designator U?
Filterless 2.5 Stereo Class D Audio Power Amplifier, 16-pin Micro SMD; PartNumber: LM4674TL; Manufacturer: National Semiconductor; PackageTopMarking: XYTT*I GG2; PowerWise: N; CompType: Audio IC; High-Reliability: Y; DatasheetVersion: Jul-2008; PackageVersion: revC, Jan-2004; PackageReference: TLA1611A; PackageDescription: Thin Micro SMD, 16 Bump (Large), 0.5mm Pitch; RoHS: Y; PinCount: 16; Code_JEDEC: MO-211-DF; ComponentLink1Description: Manufacturer URL; ComponentLink1URL: http://www.national.com/; ComponentLink2Description: LM4674 Datasheet; ComponentLink2URL: http://www.national.com/ds/LM/LM4674.pdf; ComponentLink3Description: LM4674 Web Page; ComponentLink3URL: http://www.national.com/pf/LM/LM4674.html; ComponentLink4Description: TLA1611A Package Page; ComponentLink4URL: http://www.national.com/packaging/folders/tla1611a.html
footprint TLA1611A (Micro SMD, 16-Leads, Body 1.97x1.97mm, Pitch 0.5mm, NSC Recommended)
pins: A1 INL+ (in), A2 PVDD (power), A3 OUTLA (out), A4 OUTLB (out), B1 INL- (in), B2 G1 (in), B3 ~{SDR} (in), B4 ~{SDL} (in), C1 INR- (in), C2 G0 (in), C3 GND (power), C4 PGND (power), D1 INR+ (in), D2 VDD (power), D3 OUTRA (out), D4 OUTRB (out)

## LM4674TL/NOPB
designator U?
Filterless 2.5 Stereo Class D Audio Power Amplifier, 16-pin Micro SMD, Pb-Free; PartNumber: LM4674TL/NOPB; Manufacturer: National Semiconductor; PackageTopMarking: XYTT*I GG2; PowerWise: Y; CompType: Audio IC; DatasheetVersion: Jul-2008; PackageVersion: revC, Jan-2004; PackageReference: TLA1611A; PackageDescription: Thin Micro SMD, 16 Bump (Large), 0.5mm Pitch; RoHS: Y; PinCount: 16; High-Reliability: Y; Code_JEDEC: MO-211-DF; ComponentLink1Description: Manufacturer URL; ComponentLink1URL: http://www.national.com/; ComponentLink2Description: LM4674 Datasheet; ComponentLink2URL: http://www.national.com/ds/LM/LM4674.pdf; ComponentLink3Description: LM4674 Web Page; ComponentLink3URL: http://www.national.com/pf/LM/LM4674.html; ComponentLink4Description: TLA1611A Package Page; ComponentLink4URL: http://www.national.com/packaging/folders/tla1611a.html
footprint TLA1611A (Micro SMD, 16-Leads, Body 1.97x1.97mm, Pitch 0.5mm, NSC Recommended)
pins: A1 INL+ (in), A2 PVDD (power), A3 OUTLA (out), A4 OUTLB (out), B1 INL- (in), B2 G1 (in), B3 ~{SDR} (in), B4 ~{SDL} (in), C1 INR- (in), C2 G0 (in), C3 GND (power), C4 PGND (power), D1 INR+ (in), D2 VDD (power), D3 OUTRA (out), D4 OUTRB (out)

## LM4674TLX/NOPB
designator U?
Filterless 2.5 Stereo Class D Audio Power Amplifier, 16-pin Micro SMD, Pb-Free; PartNumber: LM4674TLX/NOPB; Manufacturer: National Semiconductor; PackageTopMarking: XYTT*I GG2; PowerWise: Y; CompType: Audio IC; DatasheetVersion: Jul-2008; PackageVersion: revC, Jan-2004; PackageReference: TLA1611A; PackageDescription: Thin Micro SMD, 16 Bump (Large), 0.5mm Pitch; RoHS: Y; PinCount: 16; High-Reliability: Y; Code_JEDEC: MO-211-DF; ComponentLink1Description: Manufacturer URL; ComponentLink1URL: http://www.national.com/; ComponentLink2Description: LM4674 Datasheet; ComponentLink2URL: http://www.national.com/ds/LM/LM4674.pdf; ComponentLink3Description: LM4674 Web Page; ComponentLink3URL: http://www.national.com/pf/LM/LM4674.html; ComponentLink4Description: TLA1611A Package Page; ComponentLink4URL: http://www.national.com/packaging/folders/tla1611a.html
footprint TLA1611A (Micro SMD, 16-Leads, Body 1.97x1.97mm, Pitch 0.5mm, NSC Recommended)
pins: A1 INL+ (in), A2 PVDD (power), A3 OUTLA (out), A4 OUTLB (out), B1 INL- (in), B2 G1 (in), B3 ~{SDR} (in), B4 ~{SDL} (in), C1 INR- (in), C2 G0 (in), C3 GND (power), C4 PGND (power), D1 INR+ (in), D2 VDD (power), D3 OUTRA (out), D4 OUTRB (out)

## LM4675SD
designator U?
Ultra-Low EMI, Filterless, 2.65W, Mono, Class D Audio Power Amplifier with Spread Spectrum, 9-pin LLP; PartNumber: LM4675SD; Manufacturer: National Semiconductor; PackageTopMarking: ZXYTT*L4675; PowerWise: N; CompType: Audio IC; High-Reliability: Y; DatasheetVersion: Jul-2008; PackageVersion: revA, Aug-2003; PackageReference: SDA08A; PackageDescription: LLP, Plastic, Dual, 3 x 3 x 0.8mm Body, 8 Lead, 0.5mm Pitch, No Pullback; RoHS: Y; PinCount: 8; ComponentLink1Description: Manufacturer URL; ComponentLink1URL: http://www.national.com/; ComponentLink2Description: LM4675 Datasheet; ComponentLink2URL: http://www.national.com/ds/LM/LM4675.pdf; ComponentLink3Description: LM4675 Web Page; ComponentLink3URL: http://www.national.com/pf/LM/LM4675.html; ComponentLink4Description: SDA08A Package Page; ComponentLink4URL: http://www.national.com/packaging/folders/sda08a.html
footprint SDA08A (SON, 8-Leads, Body 3x3mm, Pitch 0.5mm, NSC Recommended)
pins: 1 IN+ (in), 2 IN- (in), 3 VDD (power), 4 ~{SD} (in), 5 VO1 (out), 6 GND (power), 7 PVDD (power), 8 VO2 (out), 9 DAP (power)

## LM4675SD/NOPB
designator U?
Ultra-Low EMI, Filterless, 2.65W, Mono, Class D Audio Power Amplifier with Spread Spectrum, 8-pin LLP, Pb-Free; PartNumber: LM4675SD/NOPB; Manufacturer: National Semiconductor; PackageTopMarking: ZXYTT*L4675; PowerWise: N; CompType: Audio IC; High-Reliability: Y; DatasheetVersion: Jul-2008; PackageVersion: revA, Aug-2003; PackageReference: SDA08A; PackageDescription: LLP, Plastic, Dual, 3 x 3 x 0.8mm Body, 8 Lead, 0.5mm Pitch, No Pullback; RoHS: Y; PinCount: 8; ComponentLink1Description: Manufacturer URL; ComponentLink1URL: http://www.national.com/; ComponentLink2Description: LM4675 Datasheet; ComponentLink2URL: http://www.national.com/ds/LM/LM4675.pdf; ComponentLink3Description: LM4675 Web Page; ComponentLink3URL: http://www.national.com/pf/LM/LM4675.html; ComponentLink4Description: SDA08A Package Page; ComponentLink4URL: http://www.national.com/packaging/folders/sda08a.html
footprint SDA08A (SON, 8-Leads, Body 3x3mm, Pitch 0.5mm, NSC Recommended)
pins: 1 IN+ (in), 2 IN- (in), 3 VDD (power), 4 ~{SD} (in), 5 VO1 (out), 6 GND (power), 7 PVDD (power), 8 VO2 (out), 9 DAP (power)

## LM4675SDX/NOPB
designator U?
Ultra-Low EMI, Filterless, 2.65W, Mono, Class D Audio Power Amplifier with Spread Spectrum, 8-pin LLP, Pb-Free; PartNumber: LM4675SDX/NOPB; Manufacturer: National Semiconductor; PackageTopMarking: ZXYTT*L4675; PowerWise: N; CompType: Audio IC; High-Reliability: Y; DatasheetVersion: Jul-2008; PackageVersion: revA, Aug-2003; PackageReference: SDA08A; PackageDescription: LLP, Plastic, Dual, 3 x 3 x 0.8mm Body, 8 Lead, 0.5mm Pitch, No Pullback; RoHS: Y; PinCount: 8; ComponentLink1Description: Manufacturer URL; ComponentLink1URL: http://www.national.com/; ComponentLink2Description: LM4675 Datasheet; ComponentLink2URL: http://www.national.com/ds/LM/LM4675.pdf; ComponentLink3Description: LM4675 Web Page; ComponentLink3URL: http://www.national.com/pf/LM/LM4675.html; ComponentLink4Description: SDA08A Package Page; ComponentLink4URL: http://www.national.com/packaging/folders/sda08a.html
footprint SDA08A (SON, 8-Leads, Body 3x3mm, Pitch 0.5mm, NSC Recommended)
pins: 1 IN+ (in), 2 IN- (in), 3 VDD (power), 4 ~{SD} (in), 5 VO1 (out), 6 GND (power), 7 PVDD (power), 8 VO2 (out), 9 DAP (power)

## LM4675TL
designator U?
Ultra-Low EMI, Filterless, 2.65W, Mono, Class D Audio Power Amplifier with Spread Spectrum, 9-pin Micro SMD; PartNumber: LM4675TL; Manufacturer: National Semiconductor; PackageTopMarking: XVG*I H8; PowerWise: Y; CompType: Audio IC; DatasheetVersion: Jul-2008; PackageVersion: revC, Jan-2004; PackageReference: TLA09AAA; PackageDescription: Thin Micro SMD, 9 Bump (Large), 0.5mm Pitch; RoHS: Y; PinCount: 9; High-Reliability: Y; Code_JEDEC: MO-211-DD; ComponentLink1Description: Manufacturer URL; ComponentLink1URL: http://www.national.com/; ComponentLink2Description: LM4675 Datasheet; ComponentLink2URL: http://www.national.com/ds/LM/LM4675.pdf; ComponentLink3Description: LM4675 Web Page; ComponentLink3URL: http://www.national.com/pf/LM/LM4675.html; ComponentLink4Description: TLA09AAA Package Page; ComponentLink4URL: http://www.national.com/packaging/folders/tla09aaa.html
footprint TLA09AAA (Micro SMD, 9-Leads, Body 1.52x1.52mm, Pitch 0.5mm, NSC Recommended)
pins: A1 IN+ (in), A2 GND (power), A3 VO 1 (out), B1 VDD (power), B2 PVDD (power), B3 PGND (power), C1 IN- (in), C2 ~{SD} (in), C3 VO 2 (out)

## LM4675TL/NOPB
designator U?
Ultra-Low EMI, Filterless, 2.65W, Mono, Class D Audio Power Amplifier with Spread Spectrum, 9-pin Micro SMD, Pb-Free; PartNumber: LM4675TL/NOPB; Manufacturer: National Semiconductor; PackageTopMarking: XVG*I H8; PowerWise: Y; CompType: Audio IC; DatasheetVersion: Jul-2008; PackageVersion: revC, Jan-2004; PackageReference: TLA09AAA; PackageDescription: Thin Micro SMD, 9 Bump (Large), 0.5mm Pitch; RoHS: Y; PinCount: 9; High-Reliability: Y; Code_JEDEC: MO-211-DD; ComponentLink1Description: Manufacturer URL; ComponentLink1URL: http://www.national.com/; ComponentLink2Description: LM4675 Datasheet; ComponentLink2URL: http://www.national.com/ds/LM/LM4675.pdf; ComponentLink3Description: LM4675 Web Page; ComponentLink3URL: http://www.national.com/pf/LM/LM4675.html; ComponentLink4Description: TLA09AAA Package Page; ComponentLink4URL: http://www.national.com/packaging/folders/tla09aaa.html
footprint TLA09AAA (Micro SMD, 9-Leads, Body 1.52x1.52mm, Pitch 0.5mm, NSC Recommended)
pins: A1 IN+ (in), A2 GND (power), A3 VO 1 (out), B1 VDD (power), B2 PVDD (power), B3 PGND (power), C1 IN- (in), C2 ~{SD} (in), C3 VO 2 (out)

## LM4675TLX/NOPB
designator U?
Ultra-Low EMI, Filterless, 2.65W, Mono, Class D Audio Power Amplifier with Spread Spectrum, 9-pin Micro SMD, Pb-Free; PartNumber: LM4675TLX/NOPB; Manufacturer: National Semiconductor; PackageTopMarking: XVG*I H8; PowerWise: Y; CompType: Audio IC; DatasheetVersion: Jul-2008; PackageVersion: revC, Jan-2004; PackageReference: TLA09AAA; PackageDescription: Thin Micro SMD, 9 Bump (Large), 0.5mm Pitch; RoHS: Y; PinCount: 9; High-Reliability: Y; Code_JEDEC: MO-211-DD; ComponentLink1Description: Manufacturer URL; ComponentLink1URL: http://www.national.com/; ComponentLink2Description: LM4675 Datasheet; ComponentLink2URL: http://www.national.com/ds/LM/LM4675.pdf; ComponentLink3Description: LM4675 Web Page; ComponentLink3URL: http://www.national.com/pf/LM/LM4675.html; ComponentLink4Description: TLA09AAA Package Page; ComponentLink4URL: http://www.national.com/packaging/folders/tla09aaa.html
footprint TLA09AAA (Micro SMD, 9-Leads, Body 1.52x1.52mm, Pitch 0.5mm, NSC Recommended)
pins: A1 IN+ (in), A2 GND (power), A3 VO 1 (out), B1 VDD (power), B2 PVDD (power), B3 PGND (power), C1 IN- (in), C2 ~{SD} (in), C3 VO 2 (out)

## LM4702BTA
designator U?
Stereo High Fidelity 200 Volt Driver with Mute, 15-pin TO-220; PartNumber: LM4702BTA; Manufacturer: National Semiconductor; PackageTopMarking: NSUZXYTTE#*LM4702BTA; PowerWise: N; CompType: Audio IC; High-Reliability: Y; DatasheetVersion: Sep-2006; PackageVersion: revA, Nov-1985; PackageReference: TA15A; PackageDescription: TO-220, Molded, .788 x .421in Body, 15 Lead, .05in Pitch; RoHS: Y; PinCount: 15; ComponentLink1Description: Manufacturer URL; ComponentLink1URL: http://www.national.com/; ComponentLink2Description: LM4702 Datasheet; ComponentLink2URL: http://www.national.com/ds/LM/LM4702.pdf; ComponentLink3Description: LM4702 Web Page; ComponentLink3URL: http://www.national.com/pf/LM/LM4702.html; ComponentLink4Description: TA15A Package Page; ComponentLink4URL: http://www.national.com/packaging/folders/ta15a.html
footprint TA15A (TO, Thru-Hole, Vertical, Heatsink Mounted; 15 Bent Staggered Leads; Body 20x10.7x4.5mm, Pitch 1.27 mm)
pins: 1 MUTE (in), 2 SOURCE 1 (out), 3 SINK 1 (out), 4 COMP 1, 5 -IN 1 (in), 6 +IN 1 (in), 7 GND (power), 8 +IN 2 (in), 9 -IN 2 (in), 10 COMP 2, 11 SINK 2 (out), 12 SOURCE 2 (out), 13 +VCC (power), 14 +VCC (power), 15 VEE- (power)

## LM4702BTA/NOPB
designator U?
Stereo High Fidelity 200 Volt Driver with Mute, 15-pin TO-220, Pb-Free; PartNumber: LM4702BTA/NOPB; Manufacturer: National Semiconductor; PackageTopMarking: NSUZXYTTE#*LM4702BTA; PowerWise: N; CompType: Audio IC; High-Reliability: Y; DatasheetVersion: Sep-2006; PackageVersion: revA, Nov-1985; PackageReference: TA15A; PackageDescription: TO-220, Molded, .788 x .421in Body, 15 Lead, .05in Pitch; RoHS: Y; PinCount: 15; ComponentLink1Description: Manufacturer URL; ComponentLink1URL: http://www.national.com/; ComponentLink2Description: LM4702 Datasheet; ComponentLink2URL: http://www.national.com/ds/LM/LM4702.pdf; ComponentLink3Description: LM4702 Web Page; ComponentLink3URL: http://www.national.com/pf/LM/LM4702.html; ComponentLink4Description: TA15A Package Page; ComponentLink4URL: http://www.national.com/packaging/folders/ta15a.html
footprint TA15A (TO, Thru-Hole, Vertical, Heatsink Mounted; 15 Bent Staggered Leads; Body 20x10.7x4.5mm, Pitch 1.27 mm)
pins: 1 MUTE (in), 2 SOURCE 1 (out), 3 SINK 1 (out), 4 COMP 1, 5 -IN 1 (in), 6 +IN 1 (in), 7 GND (power), 8 +IN 2 (in), 9 -IN 2 (in), 10 COMP 2, 11 SINK 2 (out), 12 SOURCE 2 (out), 13 +VCC (power), 14 +VCC (power), 15 VEE- (power)

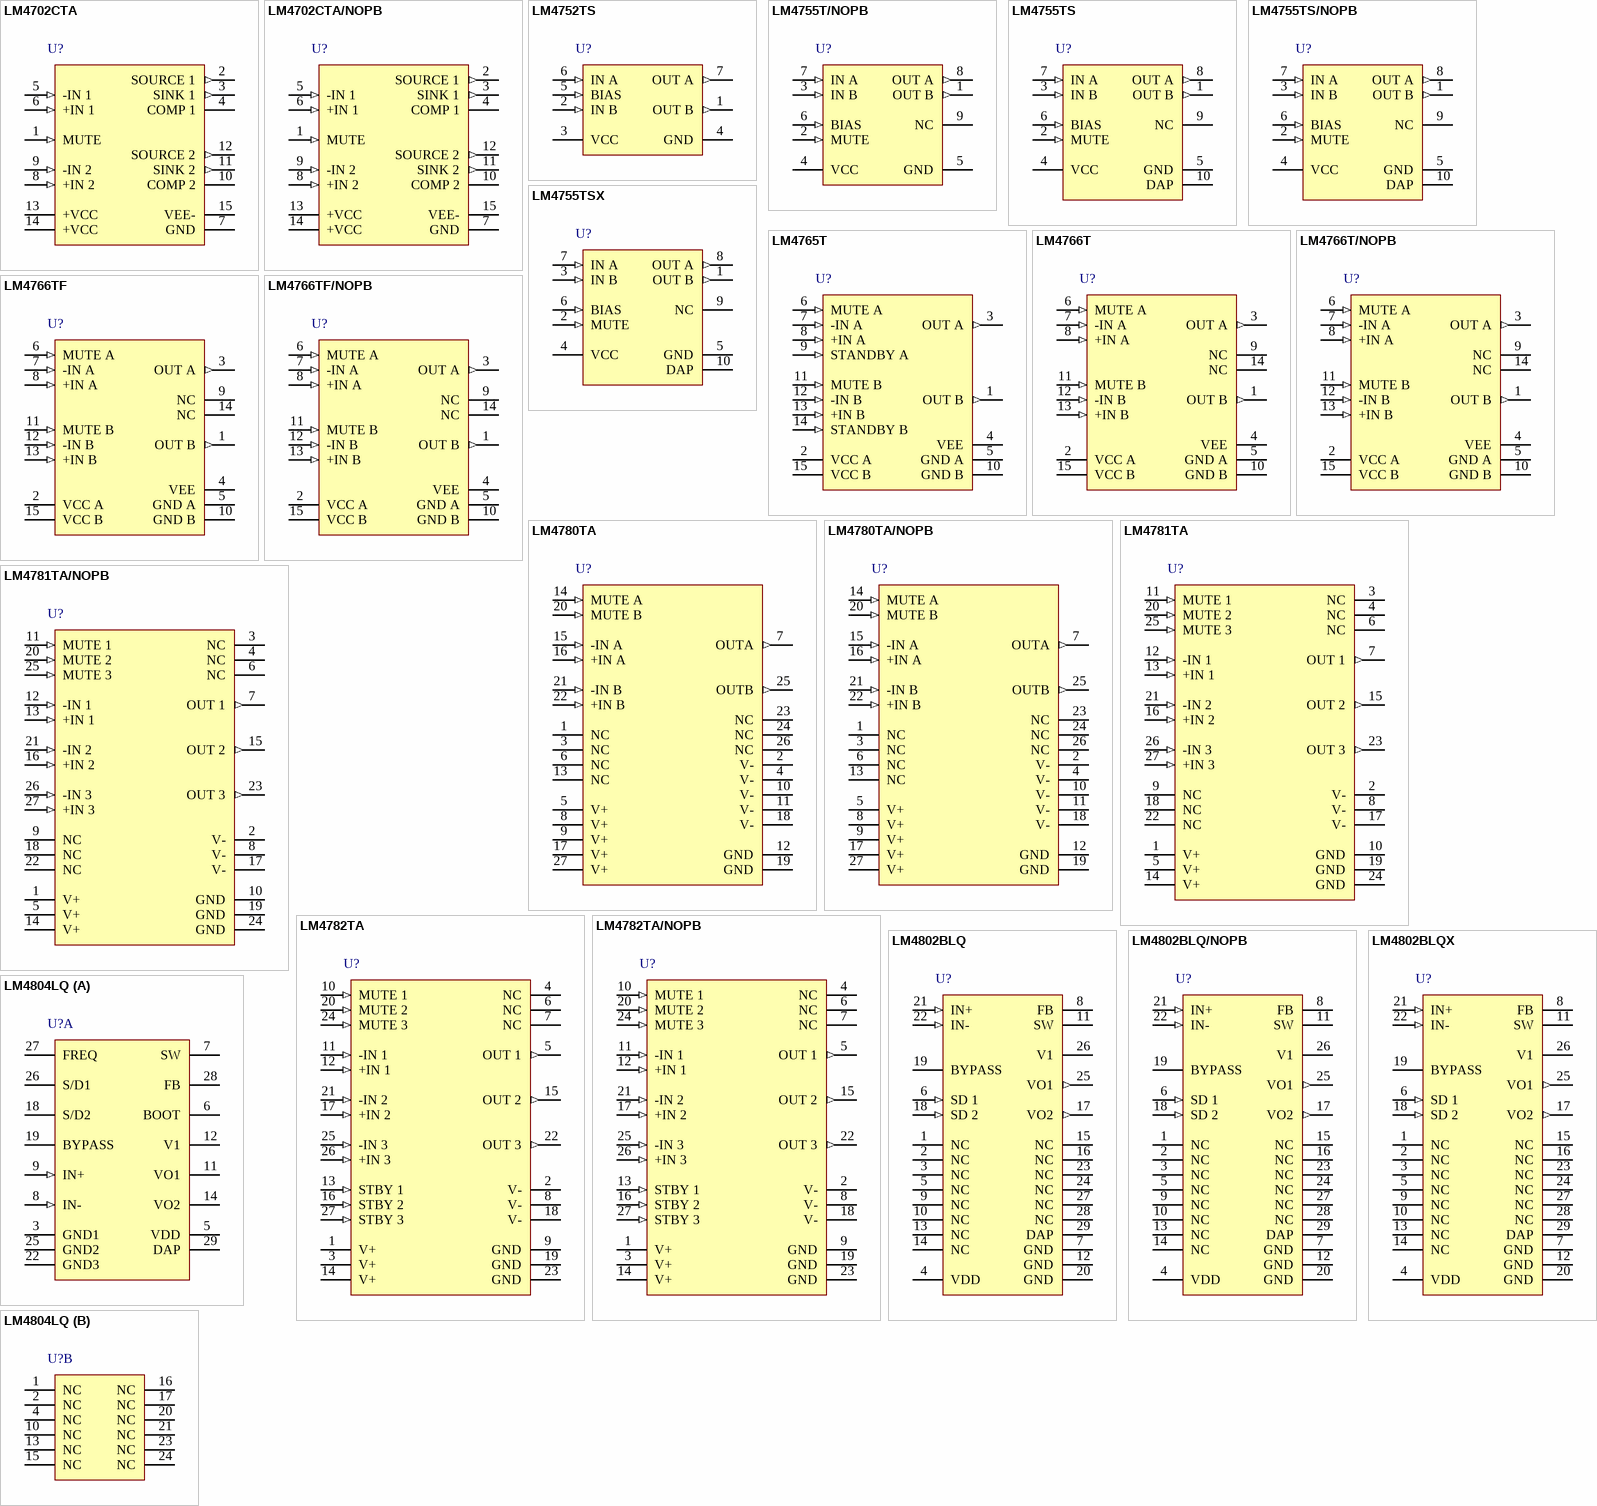
[diagram p4: symbols LM4702CTA to LM4804LQ]

## LM4702CTA
designator U?
Stereo High Fidelity 200 Volt Driver with Mute, 15-pin TO-220; PartNumber: LM4702CTA; Manufacturer: National Semiconductor; PackageTopMarking: NSUZXYTTE#*LM4702CTA; PowerWise: N; CompType: Audio IC; High-Reliability: Y; DatasheetVersion: Sep-2006; PackageVersion: revA, Nov-1985; PackageReference: TA15A; PackageDescription: TO-220, Molded, .788 x .421in Body, 15 Lead, .05in Pitch; RoHS: N; PinCount: 15; ComponentLink1Description: Manufacturer URL; ComponentLink1URL: http://www.national.com/; ComponentLink2Description: LM4702 Datasheet; ComponentLink2URL: http://www.national.com/ds/LM/LM4702.pdf; ComponentLink3Description: LM4702 Web Page; ComponentLink3URL: http://www.national.com/pf/LM/LM4702.html; ComponentLink4Description: TA15A Package Page; ComponentLink4URL: http://www.national.com/packaging/folders/ta15a.html
footprint TA15A (TO, Thru-Hole, Vertical, Heatsink Mounted; 15 Bent Staggered Leads; Body 20x10.7x4.5mm, Pitch 1.27 mm)
pins: 1 MUTE (in), 2 SOURCE 1 (out), 3 SINK 1 (out), 4 COMP 1, 5 -IN 1 (in), 6 +IN 1 (in), 7 GND (power), 8 +IN 2 (in), 9 -IN 2 (in), 10 COMP 2, 11 SINK 2 (out), 12 SOURCE 2 (out), 13 +VCC (power), 14 +VCC (power), 15 VEE- (power)

## LM4702CTA/NOPB
designator U?
Stereo High Fidelity 200 Volt Driver with Mute, 15-pin TO-220, Pb-Free; PartNumber: LM4702CTA/NOPB; Manufacturer: National Semiconductor; PackageTopMarking: NSUZXYTTE#*LM4702CTA; PowerWise: N; CompType: Audio IC; High-Reliability: Y; DatasheetVersion: Sep-2006; PackageVersion: revA, Nov-1985; PackageReference: TA15A; PackageDescription: TO-220, Molded, .788 x .421in Body, 15 Lead, .05in Pitch; RoHS: Y; PinCount: 15; ComponentLink1Description: Manufacturer URL; ComponentLink1URL: http://www.national.com/; ComponentLink2Description: LM4702 Datasheet; ComponentLink2URL: http://www.national.com/ds/LM/LM4702.pdf; ComponentLink3Description: LM4702 Web Page; ComponentLink3URL: http://www.national.com/pf/LM/LM4702.html; ComponentLink4Description: TA15A Package Page; ComponentLink4URL: http://www.national.com/packaging/folders/ta15a.html
footprint TA15A (TO, Thru-Hole, Vertical, Heatsink Mounted; 15 Bent Staggered Leads; Body 20x10.7x4.5mm, Pitch 1.27 mm)
pins: 1 MUTE (in), 2 SOURCE 1 (out), 3 SINK 1 (out), 4 COMP 1, 5 -IN 1 (in), 6 +IN 1 (in), 7 GND (power), 8 +IN 2 (in), 9 -IN 2 (in), 10 COMP 2, 11 SINK 2 (out), 12 SOURCE 2 (out), 13 +VCC (power), 14 +VCC (power), 15 VEE- (power)

## LM4752TS
designator U?
Stereo 11W Audio Power Amplifier, 7-pin TO-263; PartNumber: LM4752TS; Manufacturer: National Semiconductor; PackageTopMarking: NSUZXYTTE#*LM4752TS; PowerWise: N; CompType: Audio IC; High-Reliability: Y; DatasheetVersion: May-2008; PackageVersion: revE, Jul-2003; PackageReference: TS7B; PackageDescription: TO-263, Molded, .400 x .390 x .180in Body, 7 Lead, .050in Pitch, Surface Mount; RoHS: N; PinCount: 7; Code_JEDEC: MO-169-AC; ComponentLink1Description: Manufacturer URL; ComponentLink1URL: http://www.national.com/; ComponentLink2Description: LM4752 Datasheet; ComponentLink2URL: http://www.national.com/ds/LM/LM4752.pdf; ComponentLink3Description: LM4752 Web Page; ComponentLink3URL: http://www.national.com/pf/LM/LM4752.html; ComponentLink4Description: TS7B Package Page; ComponentLink4URL: http://www.national.com/packaging/folders/ts7b.html
footprint TS7B_N (D2-PAK, 8-Leads, Body 8.6x10.2mm, Pitch 1.27mm, Lead Span 14.1mm, IPC Medium Density)
footprint TS7B_L (D2-PAK, 8-Leads, Body 8.6x10.2mm, Pitch 1.27mm, Lead Span 14.1mm, IPC High Density)
footprint TS7B_M (D2-PAK, 8-Leads, Body 8.6x10.2mm, Pitch 1.27mm, Lead Span 14.1mm, IPC Low Density)
pins: 1 OUT B (out), 2 IN B (in), 3 VCC (power), 4 GND (power), 5 BIAS (in), 6 IN A (in), 7 OUT A (out)

## LM4755T/NOPB
designator U?
Stereo 11W Audio Power Amplifier with Mute, 9-pin TO-220, Pb-Free; PartNumber: LM4755T/NOPB; Manufacturer: National Semiconductor; PackageTopMarking: NSUZXYTTE#*LM4755T; PowerWise: N; CompType: Audio IC; High-Reliability: Y; DatasheetVersion: May-2008; PackageVersion: revC, Jul-1999; PackageReference: TA09A; PackageDescription: TO-220, Molded, 9 Lead, Staggered; RoHS: Y; PinCount: 9; ComponentLink1Description: Manufacturer URL; ComponentLink1URL: http://www.national.com/; ComponentLink2Description: LM4755 Datasheet; ComponentLink2URL: http://www.national.com/ds/LM/LM4755.pdf; ComponentLink3Description: LM4755 Web Page; ComponentLink3URL: http://www.national.com/pf/LM/LM4755.html; ComponentLink4Description: TA09A Package Page; ComponentLink4URL: http://www.national.com/packaging/folders/ta09a.html
footprint TA09A (TO, Thru-Hole, Vertical, Heatsink Mounted; 9 Bent Staggered Leads; Body 10.2x8.7x4.6mm, Pitch 0.97 mm)
pins: 1 OUT B (out), 2 MUTE (in), 3 IN B (in), 4 VCC (power), 5 GND (power), 6 BIAS (in), 7 IN A (in), 8 OUT A (out), 9 NC

## LM4755TS
designator U?
Stereo 11W Audio Power Amplifier with Mute, 9-pin TO-263; PartNumber: LM4755TS; Manufacturer: National Semiconductor; PackageTopMarking: NSUZXYTTE#*LM4755TS; PowerWise: N; CompType: Audio IC; High-Reliability: Y; DatasheetVersion: May-2008; PackageVersion: revB, Dec-2004; PackageReference: TS9A; PackageDescription: TO-263, Molded, 9 Lead, Surface Mount; RoHS: N; PinCount: 9; ComponentLink1Description: Manufacturer URL; ComponentLink1URL: http://www.national.com/; ComponentLink2Description: LM4755 Datasheet; ComponentLink2URL: http://www.national.com/ds/LM/LM4755.pdf; ComponentLink3Description: LM4755 Web Page; ComponentLink3URL: http://www.national.com/pf/LM/LM4755.html; ComponentLink4Description: TS9A Package Page; ComponentLink4URL: http://www.national.com/packaging/folders/ts9a.html
footprint TS9A_N (D2-PAK, 10-Leads, Body 8.7x10.2mm, Pitch 0.97mm, Lead Span 14.1mm, IPC Medium Density)
footprint TS9A_L (D2-PAK, 10-Leads, Body 8.7x10.2mm, Pitch 0.97mm, Lead Span 14.1mm, IPC High Density)
footprint TS9A_M (D2-PAK, 10-Leads, Body 8.7x10.2mm, Pitch 0.97mm, Lead Span 14.1mm, IPC Low Density)
pins: 1 OUT B (out), 2 MUTE (in), 3 IN B (in), 4 VCC (power), 5 GND (power), 6 BIAS (in), 7 IN A (in), 8 OUT A (out), 9 NC, 10 DAP (power)

## LM4755TS/NOPB
designator U?
Stereo 11W Audio Power Amplifier with Mute, 9-pin TO-263, Pb-Free; PartNumber: LM4755TS/NOPB; Manufacturer: National Semiconductor; PackageTopMarking: NSUZXYTTE#*LM4755TS; PowerWise: N; CompType: Audio IC; High-Reliability: Y; DatasheetVersion: May-2008; PackageVersion: revB, Dec-2004; PackageReference: TS9A; PackageDescription: TO-263, Molded, 9 Lead, Surface Mount; RoHS: Y; PinCount: 9; ComponentLink1Description: Manufacturer URL; ComponentLink1URL: http://www.national.com/; ComponentLink2Description: LM4755 Datasheet; ComponentLink2URL: http://www.national.com/ds/LM/LM4755.pdf; ComponentLink3Description: LM4755 Web Page; ComponentLink3URL: http://www.national.com/pf/LM/LM4755.html; ComponentLink4Description: TS9A Package Page; ComponentLink4URL: http://www.national.com/packaging/folders/ts9a.html
footprint TS9A_N (D2-PAK, 10-Leads, Body 8.7x10.2mm, Pitch 0.97mm, Lead Span 14.1mm, IPC Medium Density)
footprint TS9A_L (D2-PAK, 10-Leads, Body 8.7x10.2mm, Pitch 0.97mm, Lead Span 14.1mm, IPC High Density)
footprint TS9A_M (D2-PAK, 10-Leads, Body 8.7x10.2mm, Pitch 0.97mm, Lead Span 14.1mm, IPC Low Density)
pins: 1 OUT B (out), 2 MUTE (in), 3 IN B (in), 4 VCC (power), 5 GND (power), 6 BIAS (in), 7 IN A (in), 8 OUT A (out), 9 NC, 10 DAP (power)